# Altium schematic symbol library Switch.SchLib: 51 symbols
Pins are listed as number, name and electrical type; pins without a type are passive.

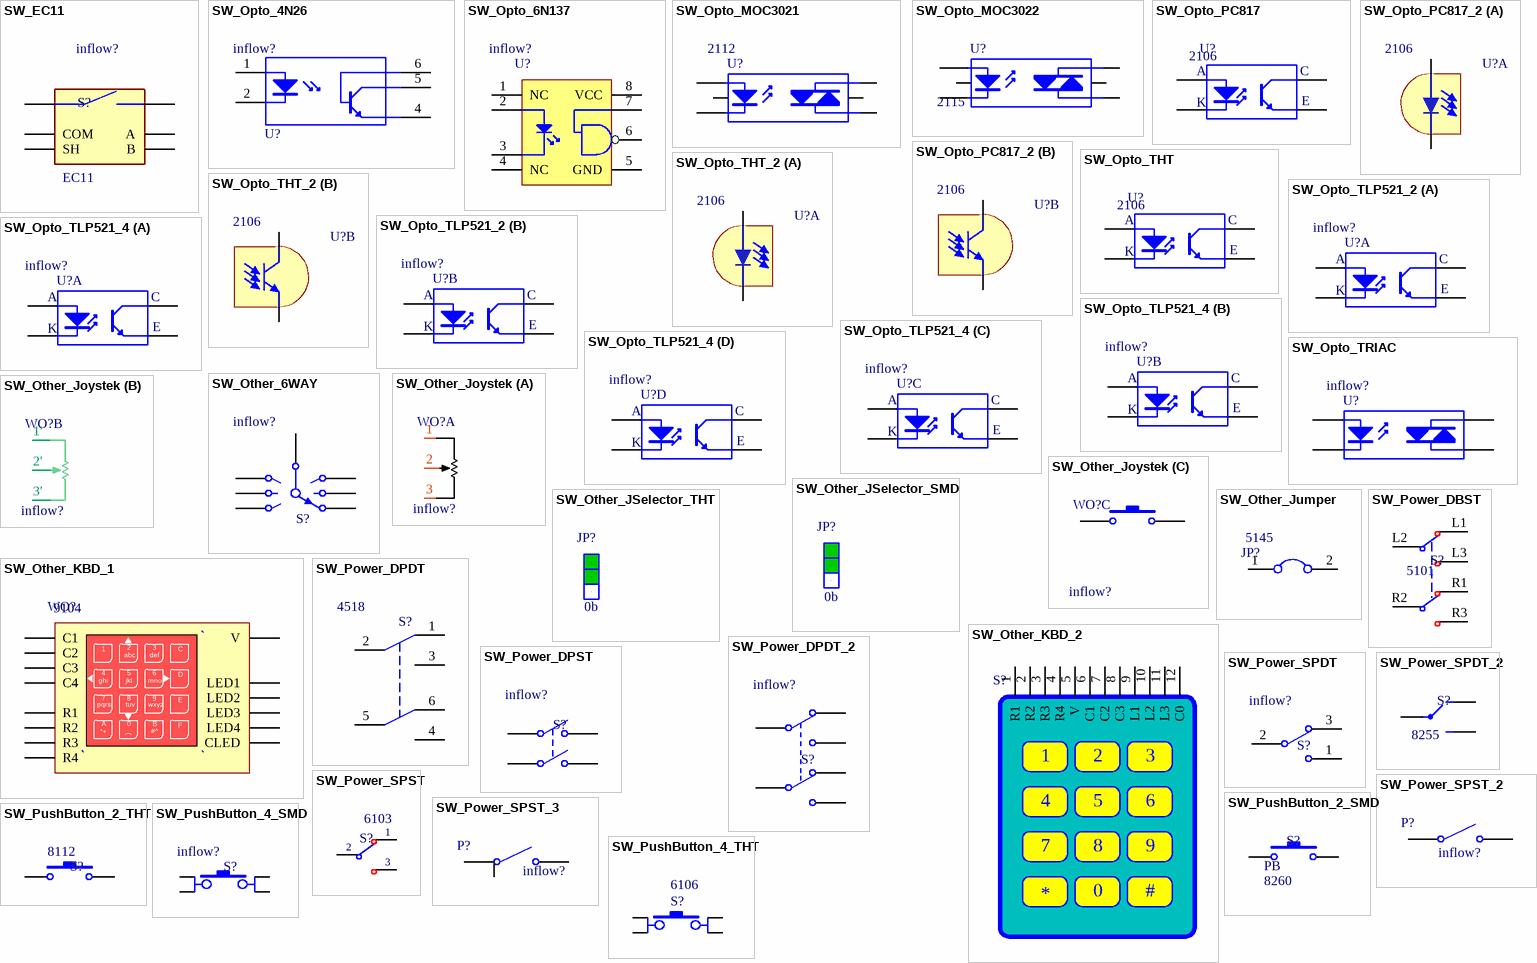
[diagram p0: symbols SW_EC11 to SW_PushButton_4_THT]

## SW_EC11
designator S?, comment Inflow: inflow?  (hidden comment: EC11)
11mm Size Metal Shaft Type Rotary Encoder Variety; Rating: Rating?; Validation: Valid; Package: Package?; Type: Rotary; Value: EC11
footprint XDCR_PEC11R-4215F-S0024
pins: 1, 2, A, B, COM, SH

## SW_Opto_4N26
designator U?, comment Inflow: inflow?  (hidden comment: 4N26)
Opto Coupler; Rating: Rating?; Validation: NT; Value: 4N26; Package: Package?; Type: Type?
footprint 4N26
footprint SMD-DIP-6(4N26)
pins: 1 A, 2 K, 4 E, 5 C, 6 B

## SW_Opto_6N137
designator U?, comment Inflow: inflow?  (hidden comment: 6N137)
HIGH SPEED-10 MBit/s  LOGIC GATE OPTOCOUPLERS; Rating: Rating?; Validation: NT; Value: 6N137; Package: Package?; Type: Type?
footprint DIP8
pins: 1 NC, 2 A, 3 K, 4 NC, 5 GND, 6 Vo, 7 Ve, 8 VCC

## SW_Opto_MOC3021
designator U?, comment Inflow: 2112  (hidden comment: MOC3021)
Opto-Triac; Rating: Rating?; Validation: NT; Value: MOC3021; Package: Package?; Type: Type?
footprint DIP-6 (DIP; 6 Leads; Row Spacing 7.62 mm; Pitch 2.54 mm)
pins: 1 A, 2 K, 3 NC, 4 A/K, 5 NC, 6 A/K

## SW_Opto_MOC3022
designator U?, comment Inflow: 2115  (hidden comment: MOC3022)
Optoisolators triac driver output; Rating: Rating?; Validation: NT; Value: MOC3022; Package: Package?; Type: Type?
footprint DIP-6 (DIP; 6 Leads; Row Spacing 7.62 mm; Pitch 2.54 mm)
pins: 1 A, 2 K, 3 NC, 4 A/K, 5 NC, 6 A/K

## SW_Opto_PC817
designator U?, comment Inflow: 2106  (hidden comment: PC817)
DIP 4pin General Purpose Photocoupler; Rating: Rating?; Validation: Valid; Value: PC817; Package: Package?; Type: Type?
footprint SMT Gullwing Lead-Form (SOP, 4-Leads, Body 4/65x6/75mm, Pitch 2/54mm, IPC Medium Density designer:abbas basereh)
footprint DIP-4 (DIP; 4 Leads; Row Spacing 7.62 mm; Pitch 2.54 mm)
pins: 1 A "Anode", 2 K "Cathode", 3 E "Emitter", 4 C "Collector"

## SW_Opto_PC817_2
designator U?, comment Inflow: 2106  (hidden comment: PC817)
DIP 4pin General Purpose  Photocoupler; Rating: Rating?; Validation: Valid; Value: PC817; Package: Package?; Type: Type?
footprint SMT Gullwing Lead-Form (SOP, 4-Leads, Body 4/65x6/75mm, Pitch 2/54mm, IPC Medium Density designer:abbas basereh)
footprint DIP-4 (DIP; 4 Leads; Row Spacing 7.62 mm; Pitch 2.54 mm)
part A pins: 1 A, 2 K
part B pins: 3 E, 4 C

## SW_Opto_THT
designator U?, comment Inflow: 2106  (hidden comment: PC817)
DIP 4pin General Purpose Photocoupler; Rating: Rating?; Validation: Valid; Value: PC817; Package: Package?; Type: Type?
footprint SMT Gullwing Lead-Form (SOP, 4-Leads, Body 4/65x6/75mm, Pitch 2/54mm, IPC Medium Density designer:abbas basereh)
footprint DIP-4 (DIP; 4 Leads; Row Spacing 7.62 mm; Pitch 2.54 mm)
pins: 1 A "Anode", 2 K "Cathode", 3 E "Emitter", 4 C "Collector"

## SW_Opto_THT_2
designator U?, comment Inflow: 2106  (hidden comment: PC817)
DIP 4pin General Purpose  Photocoupler; Rating: Rating?; Validation: Valid; Value: PC817; Package: Package?; Type: Type?
footprint SMT Gullwing Lead-Form (SOP, 4-Leads, Body 4/65x6/75mm, Pitch 2/54mm, IPC Medium Density designer:abbas basereh)
footprint DIP-4 (DIP; 4 Leads; Row Spacing 7.62 mm; Pitch 2.54 mm)
part A pins: 1 A, 2 K
part B pins: 3 E, 4 C

## SW_Opto_TLP521_2
designator U?, comment Inflow: inflow?  (hidden comment: TLP521-2)
HIGH DENSITY MOUNTING PHOTOTRANSISTOR OPTICALLY COUPLED ISOLATORS; Rating: Rating?; Validation: NT; Value: TLP521-2; Package: Package?; Type: Type?
footprint DIP8
part A pins: 1 A "Anode", 2 K "Cathode", 7 E "Emitter", 8 C "Collector"
part B pins: 3 A "Anode", 4 K "Cathode", 5 E "Emitter", 6 C "Collector"

## SW_Opto_TLP521_4
designator U?, comment Inflow: inflow?  (hidden comment: TLP521-4)
HIGH DENSITY MOUNTING PHOTOTRANSISTOR OPTICALLY COUPLED ISOLATORS; Rating: Rating?; Validation: NT; Value: TLP521-4; Package: Package?; Type: Type?
footprint DIP16
part A pins: 1 A "Anode", 2 K "Cathode", 15 E "Emitter", 16 C "Collector"
part B pins: 3 A "Anode", 4 K "Cathode", 13 E "Emitter", 14 C "Collector"
part C pins: 5 A "Anode", 6 K "Cathode", 11 E "Emitter", 12 C "Collector"
part D pins: 7 A "Anode", 8 K "Cathode", 9 E "Emitter", 10 C "Collector"

## SW_Opto_TRIAC
designator U?, comment Inflow: inflow?  (hidden comment: Value?)
Opto-Triac; Rating: Rating?; Validation: NT; Value: Value?; Package: Package?; Type: Type?
footprint NPSIP4A (SIP; 4 Leads; Body 10 x 11.5 x 7.5 mm (typ); Pitch 2.54 mm)
pins: 1 A, 2 K, 3 A/K, 4 A/K

## SW_Other_6WAY
designator S?, comment Inflow: inflow?  (hidden comment: 6'Way)
6 Way Switch; Rating: Rating?; Validation: NT; Value: 6'Way; Package: Package?; Type: Type?
footprint SW-7 (Switch; 7 Leads)
pins: 1, 2, 3, 4, 5, 6, 7

## SW_Other_Joystek
designator WO?, comment Inflow: inflow?  (hidden comment: Joystek)
Rating: Rating?; Validation: NT; Value: Joystek; Package: Package?; Type: Type?
footprint Joystek
part A pins: 1, 2, 3
part B pins: 1', 2', 3'
part C pins: 4, 5

## SW_Other_JSelector_SMD
designator JP?, comment 0b
Jumper Selector; Rating: Rating?; Inflow: inflow?; Validation: Valid; Package: 0805; Type: Selector; Value: 0b
footprint Jumper Selector SMD
pins: 1, 2, 3

## SW_Other_JSelector_THT
designator JP?, comment 0b
Jumper Selector; Rating: Rating?; Inflow: 5145; Validation: Valid; Package: Dip; Type: Selector; Value: 0b
footprint jumper selector
pins: 1, 2, 3

## SW_Other_Jumper
designator JP?, comment Inflow: 5145  (hidden comment: 2'Pin)
Jumper; Rating: Rating?; Validation: Valid; Value: 2'Pin; Package: Package?; Type: Type?
footprint Jumper
footprint Jumper SMD
footprint Jumper Small - 2.54 - BLUE
footprint Jumper Small - 2.54 - GRAY
footprint Jumper Small - 2.54 - RED
footprint Jumper Small - 2.54 - GRAY - Open
footprint Jumper SMD - Small
pins: 1, 2

## SW_Other_KBD_1
designator WO?, comment Inflow: 9104  (hidden comment: 4x4)
Keyboard Matrix 4x4; Rating: Rating?; Validation: NT; Value: 4x4; Package: Package?; Type: Type?
footprint keyboard (Matrix Keyboard 4x4)
pins: C1, C2, C3, C4, CO CLED, L1 LED1, L2 LED2, L3 LED3, L4 LED4, R1, R2, R3, R4, V
text: 1; 2; 3; C; abc; def; 4; 5; 6; ghi; jkl; mno; D; 7; 8; 9; E; pqrs; tuv; wxyz; A; 0; B; F; *+; (; #^

## SW_Other_KBD_2
designator S?, comment Inflow: 9105  (hidden comment: 4x3)
4 Row ,3 Colunm Matrix Keyboard; Rating: Rating?; Validation: NT; Value: 4x3; Package: Package?; Type: Type?
footprint KEYPAD_4x3
pins: 1 R1, 2 R2, 3 R3, 4 R4, 5 V, 6 C1, 7 C2, 8 C3, 9 L1, 10 L2, 11 L3, 12 C0
text: 0; #

## SW_Power_DBST
designator S?, comment Inflow: 5101  (hidden comment: DBST)
Double Pole, Single Throw 6Pin; Rating: Rating?; Validation: Valid; Value: DBST; Package: Package?; Type: Type?
footprint DBST6 (Double Pole, Single Throw 6Pin)
pins: L1, L2, L3, R1, R2, R3

## SW_Power_DPDT
designator S?, comment Inflow: 4518  (hidden comment: DPDT)
DPDT Switch; Rating: Rating?; Validation: Valid; Value: DPDT; Package: Package?; Type: Type?
footprint Switch - DPDT
pins: 1, 2, 3, 4, 5, 6

## SW_Power_DPDT_2
designator S?, comment Inflow: inflow?  (hidden comment: DPDT)
Switch; Rating: Rating?; Validation: NT; Value: DPDT; Package: Package?; Type: Type?
footprint SOT23-6_N (SOT23, 6-Leads, Body 2.9x1.6mm, Pitch 0.95mm, Lead Span 2.7mm, IPC Medium Density)
footprint SOT23-6_L (SOT23, 6-Leads, Body 2.9x1.6mm, Pitch 0.95mm, Lead Span 2.7mm, IPC High Density)
footprint SOT23-6_M (SOT23, 6-Leads, Body 2.9x1.6mm, Pitch 0.95mm, Lead Span 2.7mm, IPC Low Density)
pins: 1 COMMON1, 2 NC1, 3 NO1, 4 NC2, 5 COMMON2, 6 NO2

## SW_Power_DPST
designator S?, comment Inflow: inflow?  (hidden comment: DPST)
Double-Pole, Single-Throw Switch; Rating: Rating?; Validation: NT; Value: DPST; Package: Package?; Type: Type?
footprint DPST-4 (Switch; 4 Leads)
pins: 1 COMMON1, 2 NO1, 3 COMMON2, 4 NO2

## SW_Power_SPDT
designator S?, comment Inflow: inflow?  (hidden comment: SPDT)
SPDT Subminiature Toggle Switch, Right Angle Mounting, Vertical Actuation; Rating: Rating?; Validation: NT; Value: SPDT; Package: Package?; Type: Type?
footprint TL36WW15050 (Switch; 4 Leads)
pins: 1, 2, 3

## SW_Power_SPDT_2
designator S?, comment Inflow: 8255  (hidden comment: SPDT)
SPDT Switch; Rating: Rating?; Validation: NT; Value: SPDT; Package: Package?; Type: Type?
footprint SW SPDT- Horizontal
footprint Switch SPDT - 500x270x1100x185 mil
footprint Switch SPDT - 500x270x1100x185 mil - Right Angle
footprint SW
footprint SW SPDT Subminiator (Subminiator SPDT switch)
pins: 1, 2, 3

## SW_Power_SPST
designator S?, comment Inflow: 6103  (hidden comment: SPST)
Single-Pole Single-Throw; Rating: Rating?; Validation: Valid; Value: SPST; Package: Package?; Type: Type?
footprint SW3
footprint SW5
footprint SW6103
footprint SW8115
footprint SPDT Subminiator (Subminiator SPDT switch)
pins: 1, 2, 3

## SW_Power_SPST_2
designator P?, comment Inflow: inflow?  (hidden comment: SPST)
Signal Connector 2'Pin used as Switch on/off; Rating: Rating?; Validation: Valid; Package: Dip; Type: Power; Value: SPST
footprint MOLEX KK 0022272021
footprint JST XH B2B-XH-A
footprint JST XH B2B-XH-A - RIGHT
footprint HDR 1X2 (Connector; Header; 2 Position)
footprint Molex sda-70553-2pin (SL Right angle header with latch, 0.100 centres, SDA-70553)
footprint 645002114822 (3.96mm Male Locking Header, 2p)
pins: 1, 2

## SW_Power_SPST_3
designator P?, comment Inflow: inflow?  (hidden comment: SPST)
Signal Connector 3'Pin used as Switch on/off; Rating: Rating?; Validation: Valid; Package: Dip; Type: Power; Value: SPST
footprint HDR 1X3 (Connector; Header; 3 Position)
footprint JST XH B3B-XH-A
footprint JST XH B3B-XH-A - RIGHT
footprint MOLEX KK 0022272031
footprint Molex sda-70553-3pin (SL Right Angle Header W/LAtch & Trip-Pegs 2.54mm Centres)
pins: 1, 2, 3

## SW_PushButton_2_SMD
designator S?, comment Inflow: 8260  (hidden comment: PB)
SMT Tactile ‎Switch; Rating: 2b; Validation: Valid; Type: Vertical; Package: SMD; Value: PB
footprint SW_PB_SMD_2PIN_SPST_6X3X5_R (SWITCH, PUSHBUTTON, SMD, SPST, RIGHT)
footprint SW_PB_SMD_2PIN_SPST_6X3X5 (SWITCH, PUSHBUTTON, SMD, SPST, 6X3.5mm, SKQMBBE010, 50000 Cycles, 1.57N Force)
footprint SW_PB_SMD_2PIN_SPST_6X3X2 (SWITCH, PUSHBUTTON, SMD, SPST, 6X3.5X2.5mm, RS-282G05A3, SKQYPA, 50000 Cycles)
footprint SW_PB_SMD_2PIN_SPST_3X2X1 (SWITCH, PUSHBUTTON, SMD, SPST, 3X2.5mm)
footprint SW_PB_SMD_2PIN_SPST_PTS820 (SMT Tactile Switch PTS 820 Series)
pins: 1, 2

## SW_PushButton_2_THT
designator S?, comment Inflow: 8112  (hidden comment: 2'Pin)
Switch Push Button 2 Pin; Rating: Rating?; Validation: Valid; Value: 2'Pin; Package: Package?; Type: Type?
footprint SW_PB_THT_2PIN_SPST_6X3X5 (SWITCH, PUSHBUTTON, THD, SPST, 6X3.5mm)
footprint SW_PB_THT_2PIN_SPST_6X6X4 (SWITCH, PUSHBUTTON, THD, SPST, 6X6mm)
footprint SW_PB_THT_2PIN_SPST_6X6X4C (SWITCH, PUSHBUTTON, THD, SPST, 6X6X4.3mm ; 500,000 cycles ; 1.27N Force, SKRGAAD010)
footprint SW_PB_THT_2PIN_SPST_6X6X5 (SWITCH, PUSHBUTTON, THD, SPST,)
footprint SW_PB_THT_2PIN_SPST_6X6X10 (SWITCH, PUSHBUTTON, THD, SPST, 6X6X9.5 mm ; 200,000 cycles ; 0.98N Force, SKQKAJD010)
footprint SW_PB_THT_2PIN_SPST_8X8 (SWITCH, PUSHBUTTON, THD, SPST, 8X8X5.5mm ; 100,000 cycles ; 2.45N Force, SKPDACD010)
footprint SW_PB_THT_2PIN_SPST_9X9X13 (SWITCH, PUSHBUTTON, THD, SPST, 9X9X13 mm ; 100,000 cycles ; 1.57N Force, SKRCACD010)
footprint SW_PB_THT_2PIN_SPST_R_12X12 (SWITCH, PUSHBUTTON, THD, SPST, GPTS203212B (CW) 12x12x9.1mm)
footprint SW_PB_THT_2PIN_SPST_12X12 (SWITCH, PUSHBUTTON, THD, SPST, GPTS203212B (CW) 12x12x9.1mm)
footprint SW_PB_THT_2PIN_SUB_SPST_R_6X3 (SWITCH, PUSHBUTTON, THD, SPST, 6X3mm;)
footprint SW_PB_THT_2PIN_SUB_SPST_R_6X6 (SWITCH, PUSHBUTTON, THD, SPST, 6X6mm, RIGHT ANGLE, FSMRA2JH, FSMRA3JH, SKHHLQA010)
footprint SW_PB_THT_2PIN_SUB_SPST_R_6X6X4 (SWITCH, PUSHBUTTON, THD, SPST, 6X6X3.85 mm; 1,000,000 cycles ; 0.98N Force, SKHHLMA010)
footprint SW_PB_THT_2PIN_SUB_SPST_R_6X6X6 (SWITCH, PUSHBUTTON, THD, SPST, 6X6X5.85mm; 1,000,000 cycles ; 0.98N Force, SKHHLUA010)
footprint SW_PB_THT_2PIN_SUB_SPST_R_6X6X10 (SWITCH, PUSHBUTTON, THD, SPST, 6X6mm, RIGHT ANGLE)
pins: 1, 2

## SW_PushButton_4_SMD
designator S?, comment Inflow: inflow?  (hidden comment: 4'Pin)
SMT Tactile ‎Switch; Rating: Rating?; Validation: NT; Value: 4'Pin; Package: Package?; Type: Type?
footprint SW_PB_SMD_4PIN_SPDT_R_WE (SWITCH, PUSHBUTTON, SMD, SPDT, RIGHT)
footprint SW_PB_SMD_4PIN_SPDT_R_KMS (SWITCH, PUSHBUTTON, SMD, SPDT, RIGHT)
footprint SW_PB_SMD_4PIN_SPDT_6X6X7TS (SWITCH, PUSHBUTTON, SMD, SPDT, 7.0mm, TS-1170S)
footprint SW_PB_SMD_4PIN_SPDT_6X6X7 (SWITCH, PUSHBUTTON, SMD, SPDT, 6.2x6.2x7.3mm, TACTDQ62)
footprint SW_PB_SMD_4PIN_SPDT_6X6X5TS (SWITCH, PUSHBUTTON, SMD, SPDT, 6.5x6.5mm, 5.0mm, TS-1150S)
footprint SW_PB_SMD_4PIN_SPDT_6X6X5 (SWITCH, PUSHBUTTON, SMD, SPDT, 6X6mm 4PIN)
footprint SW_PB_SMD_4PIN_SPDT_6X6X4 (SWITCH, PUSHBUTTON, SMD, SPDT, 6.5x6.5mm, 4.3mm, TS-1143S)
footprint SW_PB_SMD_4PIN_SPDT_5X5_SKRB (SWITCH, PUSHBUTTON, SMD, SPDT, SKRB Series ; Height 0.55 mm ; 2,000,000 cycles ; 1.1N Force, SKRBAGE010)
footprint SW_PB_SMD_4PIN_SPDT_5X5X1 (SWITCH, PUSHBUTTON, SMD, SPDT, SKQG Series ; Height 1.5 mm ; 500,000 cycles ; 0.98N Force, SKQGAFE010)
footprint SW_PB_SMD_4PIN_SPDT_4X4SKRW (SWITCH, PUSHBUTTON, SMD, SPDT, SKRW Series ; Height 0.35 mm ; 500,000 cycles ; 1.57N Force, SKRWAEE030)
footprint SW_PB_SMD_4PIN_SPDT_4X4SKRM (SWITCH, PUSHBUTTON, SMD, SPDT, SKRM Series ; Height 0.4 mm ; 500,000 cycles ; 1.57N Force, SKRMAAE010)
footprint SW_PB_SMD_4PIN_SPDT_3X3X1 (SWITCH, PUSHBUTTON, SMD, SPDT, 3.0x2.7mm, SKSG Series; Height 1.4 mm; 200,000 cycles; 4N force, SKSGAAE010)
footprint SW_PB_SMD_4PIN_SPDT_3X3 (SWITCH, PUSHBUTTON, SMD, SPDT, 3.3x2.9 mm, SKSH Series; Height 0.38mm ; 200,000 cycles ; 1.6N Force, SKSHAAE010)
footprint SW_PB_SMD_4PIN_SPDT_6x6 (Miniature Push Button Switch,B3F Series;body 6 x 6mm, 4-Leads)
footprint SW_PB_SMD_4PIN_SPDT_TS015TS (SMT Switch TS-015)
pins: 1 PINA1, 2 PINB2, 3 PINB1, 4 PINA2

## SW_PushButton_4_THT
designator S?, comment Inflow: 6106  (hidden comment: 4'Pin)
Switch Push Button 4 Pin; Rating: Rating?; Validation: Valid; Value: 4'Pin; Package: Package?; Type: Type?
footprint SW_PB_THT_4PIN_SPDT_12X12SKQE (SWITCH, PUSHBUTTON, THD, SPDT, 12X12X4.3 mm ; 10,000,000 cycles ; 1.57N Force, SKQEABA010)
footprint SW_PB_THT_4PIN_SPDT_12X12SKHC (SWITCH, PUSHBUTTON, THD, SPDT, 12X12X7.3 mm ; 1,000,000 cycles ; 1.27N Force, SKHCBEA010)
footprint SW_PB_THT_4PIN_SPDT_10X10X7 (SWITCH, PUSHBUTTON, THD, SPDT,)
footprint SW_PB_THT_4PIN_SPDT_6X6X17SKHH (SWITCH, PUSHBUTTON, THD, SPDT, 6X6X17.0 mm Height ; 500,000 cycles ; 0.98N Force, SKHHDHA010)
footprint SW_PB_THT_4PIN_SPDT_7X7X5 (SWITCH, PUSHBUTTON, THD, SPDT, 7.2X7.2mm, TC-37XB)
footprint SW_PB_THT_4PIN_SPDT_6X6X13SKHH (SWITCH, PUSHBUTTON, THD, SPDT, 6X6X13.0 mm Height; 1,000,000 cycles ; 0.98N Force, SKHHDTA010)
footprint SW_PB_THT_4PIN_SPDT_6X6X10SKHH (SWITCH, PUSHBUTTON, THD, SPDT, 6X6X9.5 mm Height ; 1,000,000 cycles ; 0.98N Force, SKHHANA010)
footprint SW_PB_THT_4PIN_SPDT_6X6X8TL (SWITCH, PUSHBUTTON, THD, SPDT, 8.0mm, TL-1105-C)
footprint SW_PB_THT_4PIN_SPDT_6X6X10 (SWITCH, PUSHBUTTON, THD, SPDT,)
footprint SW_PB_THT_4PIN_SPDT_6X6X7TS (SWITCH, PUSHBUTTON, THD, SPDT, TS-1170)
footprint SW_PB_THT_4PIN_SPDT_6X6X7J (SWITCH, PUSHBUTTON, THD, SPDT, Joint Stem type; 7.3 mm Height ; 1,000,000 cycles ; 0.98N Force, SKHHCWA010)
footprint SW_PB_THT_4PIN_SPDT_6X6X7 (SWITCH, PUSHBUTTON, THD, SPDT, 6X6X7.0 mm Height ; 1,000,000 cycles ; 0.98N Force, SKHHBVA010)
footprint SW_PB_THT_4PIN_SPDT_6X6X5TS (SWITCH, PUSHBUTTON, THD, SPDT, TS-1150)
footprint SW_PB_THT_4PIN_SPDT_6X6X5SKHH (SWITCH, PUSHBUTTON, THD, SPDT, 6X6X5.0 mm Height ; 1,000,000 cycles ; 0.98N Force, SKHHAKA010)
footprint SW_PB_THT_4PIN_SPDT_6X6X5 (SWITCH, PUSHBUTTON, THD, SPDT, 6X6mm)
footprint SW_PB_THT_4PIN_SPDT_6X6X4SKHH (SWITCH, PUSHBUTTON, THD, SPDT, 6X6X4.3 mm Height ; 1,000,000 cycles ; 0.98N Force, SKHHAJA010)
footprint SW_PB_THT_4PIN_SPDT_6X6X4 (SWITCH, PUSHBUTTON, THD, SPDT, TS-1143)
pins: 1 PINA1, 2 PINB2, 3 PINB1, 4 PINA2

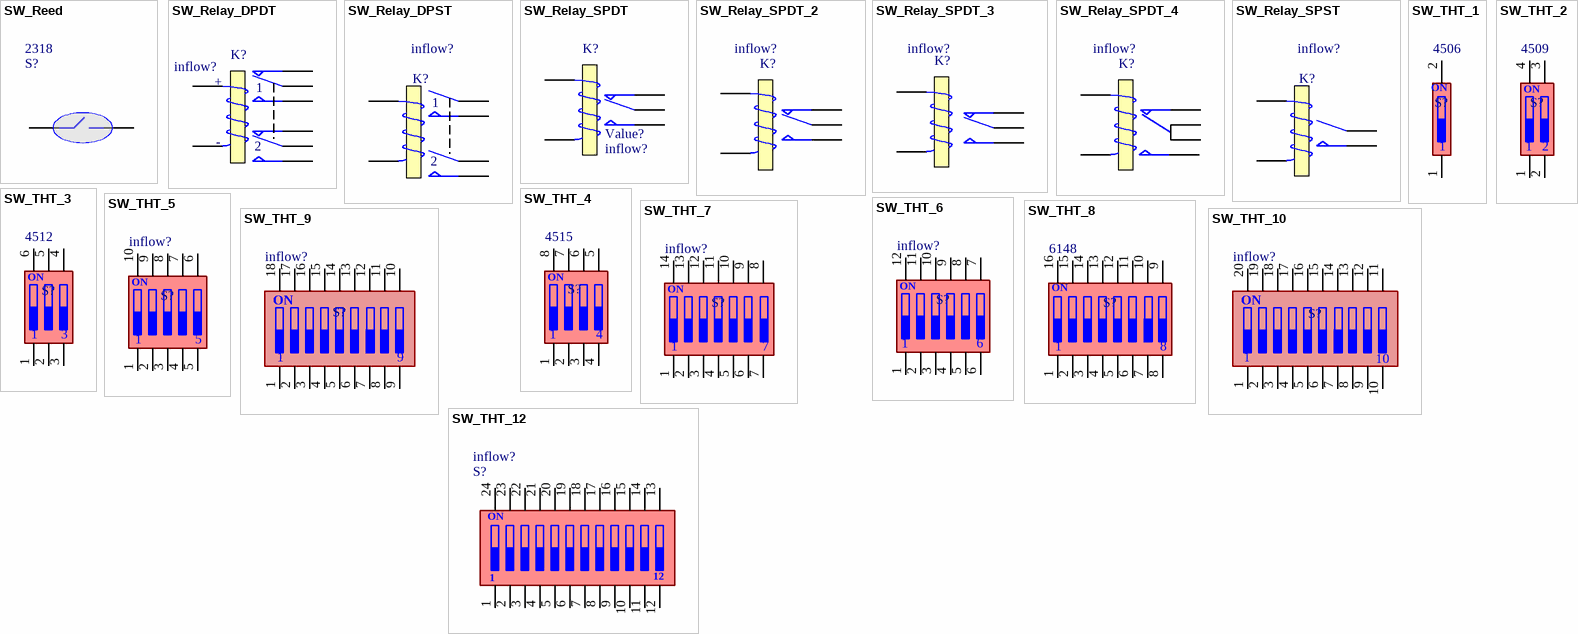
[diagram p1: symbols SW_Reed to SW_THT_12]

## SW_Reed
designator S?, comment Inflow: 2318  (hidden comment: 10'mm)
MDSR-10 10.2mm Sub-miniature Reed Switch; Rating: Rating?; Validation: NT; Value: 10'mm; Package: Package?; Type: Type?
footprint REED_RELAY
pins: 1, 2

## SW_Relay_DPDT
designator K?, comment Inflow: inflow?  (hidden comment: DPDT)
Dual-Pole Dual-Throw Relay; Rating: Rating?; Validation: NT; Value: DPDT; Package: Package?; Type: Type?
footprint SMD_MISC_Relay_DPDT (SMD DPDT Relay. Dimension 7.0 x 14.5 x 9.6 mm)
footprint DIP_MISC_RELAY_DPDT1 (OMRON G5V-2 DPDT Relay (20.4*10*12 mm))
footprint DIP_MISC_RELAY_DPDT2 (OMRON G5V-2 DPDT Relay (20.4*10*12 mm))
pins: 1 T1, 2 T2, CM1, CM2, NC1, NC2, NO1, NO2
text: +; -

## SW_Relay_DPST
designator K?, comment Inflow: inflow?  (hidden comment: DPST)
Dual-Pole Single-Throw Relay; Rating: Rating?; Validation: NT; Value: DPST; Package: Package?; Type: Type?
footprint MODULE6 (DIP; 6 Round Pins; Row Space 20.32 mm; Pitch 2.54 mm)
pins: 1, 2, 3, 4, 5, 6

## SW_Relay_SPDT
designator K?, comment Inflow: inflow?  (hidden comment: Value?)
SPDT Relay; Rating: Rating?; Validation: Valid; Type: SPDT; Package: Dip; Value: Value?
footprint Relay 15.40x12.10x13.10
footprint Relay 18.85x15.35x15.70 (DESIGNER ABBAS BASEREH)
footprint Relay Needle 31.7x26.7x28 (DESIGNER ABBAS BASEREH)
footprint MODULE5B (DIP; 5 Round Pins; Row Space 15.24 mm; Pitch 2.54 mm)
pins: 1 COM, 2 NC, 3 NO, 4 T1, 5 T2

## SW_Relay_SPDT_2
designator K?, comment Inflow: inflow?  (hidden comment: SPDT)
Relay_SPDT POWER NEEDLE; Rating: Rating?; Validation: NT; Value: SPDT; Package: Package?; Type: Type?
footprint RELAY NT90TNC12CB (31.7x26.7x28 DESIGNER:ABBAS BASEREH)
footprint Relay5
pins: 1 COM, 2 T2, 3 T1, 4 NO, 5 NC

## SW_Relay_SPDT_3
designator K?, comment Inflow: inflow?  (hidden comment: SPDT)
Relay 3; Rating: Rating?; Validation: NT; Value: SPDT; Package: Package?; Type: Type?
footprint RELAY 3
pins: 0 T2, 1 T1, 2 COM, 3 NC, 4 NO

## SW_Relay_SPDT_4
designator K?, comment Inflow: inflow?  (hidden comment: SPDT)
SPDT Relay; Rating: Rating?; Validation: Valid; Value: SPDT; Package: Package?; Type: Type?
footprint REL_SPDT_6_1207
pins: 1 NO, 2, 5 COM, 6 COM, 9, 10 NC

## SW_Relay_SPST
designator K?, comment Inflow: inflow?  (hidden comment: SPST)
Single-Pole Single-Throw Relay; Rating: Rating?; Validation: NT; Value: SPST; Package: Package?; Type: Type?
footprint MODULE4 (DIP; 4 Round Pins; Row Space 27.94 mm; Pitch 15.24 mm)
pins: 1, 2, 3, 4

## SW_THT_1
designator S?, comment Inflow: 4506  (hidden comment: 1'bit)
1 BIT DIP Switch; Rating: Rating?; Validation: Valid; Value: 1'bit; Package: Package?; Type: Type?
footprint DIP Switch x1 (Switch DIP 1 way flat slide Thru-Hole-Design:Ali Hafizi)
pins: 1, 2
text: ON

## SW_THT_2
designator S?, comment Inflow: 4509  (hidden comment: 3'bit)
2 BIT DIP Switch; Rating: Rating?; Validation: NT; Value: 3'bit; Package: Package?; Type: Type?
footprint DIP Switch x2 (Switch DIP 2 way flat slide Thru-Hole-Design:Ali Hafizi)
pins: 1, 2, 3, 4
text: ON

## SW_THT_3
designator S?, comment Inflow: 4512  (hidden comment: 3'bit)
3 BIT DIP Switch; Rating: Rating?; Validation: NT; Value: 3'bit; Package: Package?; Type: Type?
footprint DIP Switch x3 (Switch DIP 3 way flat slide Thru-Hole-Design:Ali Hafizi)
pins: 1, 2, 3, 4, 5, 6
text: ON

## SW_THT_4
designator S?, comment Inflow: 4515  (hidden comment: 4'bit)
4 BIT DIP Switch; Rating: Rating?; Validation: NT; Value: 4'bit; Package: Package?; Type: Type?
footprint DIP Switch x4 (Switch DIP 4 way flat slide Thru-Hole-Design:Ali Hafizi)
pins: 1, 2, 3, 4, 5, 6, 7, 8
text: ON

## SW_THT_5
designator S?, comment Inflow: inflow?  (hidden comment: 5'bit)
5 BIT DIP Switch; Rating: Rating?; Validation: NT; Value: 5'bit; Package: Package?; Type: Type?
footprint DIP Switch x5 (Switch DIP 5 way flat slide Thru-Hole-19624)
pins: 1, 2, 3, 4, 5, 6, 7, 8, 9, 10
text: ON

## SW_THT_6
designator S?, comment Inflow: inflow?  (hidden comment: 6'bit)
6 BIT DIP Switch; Rating: Rating?; Validation: NT; Value: 6'bit; Package: Package?; Type: Type?
footprint DIP Switch x6 (Switch DIP 6 way flat slide Thru-Hole-Design:Ali Hafizi)
pins: 1, 2, 3, 4, 5, 6, 7, 8, 9, 10, 11, 12
text: ON

## SW_THT_7
designator S?, comment Inflow: inflow?  (hidden comment: 7'bit)
7 BIT DIP Switch; Rating: Rating?; Validation: NT; Value: 7'bit; Package: Package?; Type: Type?
footprint DIP Switch x7 (Switch DIP 7 way flat slide Thru-Hole-Design:Ali Hafizi)
pins: 1, 2, 3, 4, 5, 6, 7, 8, 9, 10, 11, 12, 13, 14
text: ON

## SW_THT_8
designator S?, comment Inflow: 6148  (hidden comment: 8'bit)
8 BIT DIP Switch; Rating: Rating?; Validation: NT; Value: 8'bit; Package: Package?; Type: Type?
footprint DIP Switch x8 (Switch DIP 8 way flat slide Thru-Hole-Design:Ali Hafizi)
pins: 1, 2, 3, 4, 5, 6, 7, 8, 9, 10, 11, 12, 13, 14, 15, 16
text: ON

## SW_THT_9
designator S?, comment Inflow: inflow?  (hidden comment: 9'bit)
9 BIT DIP Switch; Rating: Rating?; Validation: NT; Value: 9'bit; Package: Package?; Type: Type?
footprint DIP Switch X9 (Switch DIP 9 way flat slide Thru-Hole)
pins: 1 A, 2 A, 3 A, 4 A, 5 A, 6 A, 7 A, 8 A, 9 A, 10 B, 11 B, 12 B, 13 B, 14 B, 15 B, 16 B, 17 B, 18 B
text: ON

## SW_THT_10
designator S?, comment Inflow: inflow?  (hidden comment: 10'bit)
10 BIT DIP Switch; Rating: Rating?; Validation: NT; Value: 10'bit; Package: Package?; Type: Type?
footprint DIP Switch X10 (Switch DIP 10 way flat slide Thru-Hole)
pins: 1 A, 2 A, 3 A, 4 A, 5 A, 6 A, 7 A, 8 A, 9 A, 10 A, 11 B, 12 B, 13 B, 14 B, 15 B, 16 B, 17 B, 18 B, 19 B, 20 B
text: ON

## SW_THT_12
designator S?, comment Inflow: inflow?  (hidden comment: 12'bit)
12 BIT DIP Switch; Rating: Rating?; Validation: NT; Value: 12'bit; Package: Package?; Type: Type?
footprint DIP Switch x12
pins: 1, 2, 3, 4, 5, 6, 7, 8, 9, 10, 11, 12, 13, 14, 15, 16, 17, 18, 19, 20, 21, 22, 23, 24
text: ON